# EAGLE library part 61306421121 (library Eagle_BOARD-TO-BOARD_CONNECTORS (rev18b))
WR-PHD Dual Pin Header, 64 Pins =>Code : Con_BTB_PHD_2.54_2_61306421121 <http://katalog.we-online.de/media/images/eican/Con_BTB_PHD_2.54_2_6130xx21121_pf2.jpg> Details see: http://katalog.we-online.de/en/em/613_0xx_211_21 Created 2014-05-29, Karrer Zheng 2014 (C) Würth Elektronik
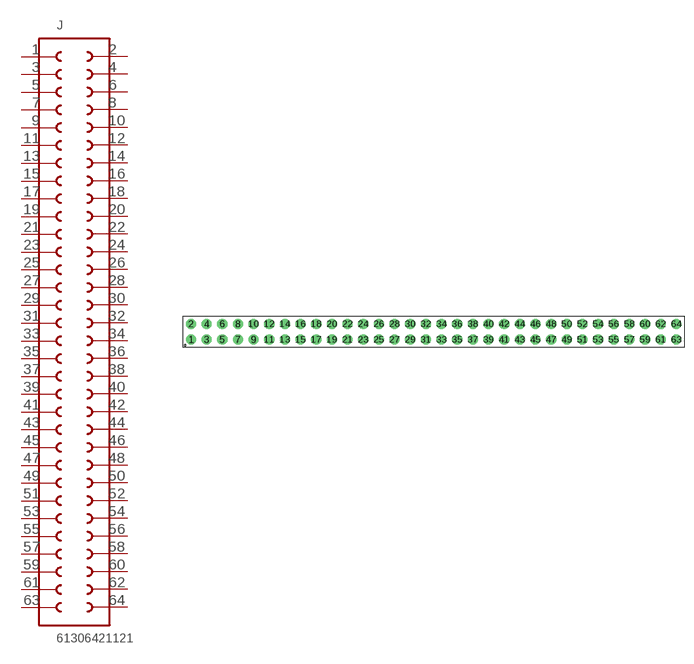
[diagram p36: symbol with the pads of 61306421121; footprint 61306421121]

Designator prefix J

## 61306421121  [61306421121]
1  1  pas
2  64  pas
3  2  pas
4  63  pas
5  3  pas
6  62  pas
7  4  pas
8  61  pas
9  5  pas
10  60  pas
11  6  pas
12  59  pas
13  7  pas
14  58  pas
15  8  pas
16  57  pas
17  9  pas
18  56  pas
19  10  pas
20  55  pas
21  11  pas
22  54  pas
23  12  pas
24  53  pas
25  13  pas
26  52  pas
27  14  pas
28  51  pas
29  15  pas
30  50  pas
31  16  pas
32  49  pas
33  17  pas
34  48  pas
35  18  pas
36  47  pas
37  19  pas
38  46  pas
39  20  pas
40  45  pas
41  21  pas
42  44  pas
43  22  pas
44  43  pas
45  23  pas
46  42  pas
47  24  pas
48  41  pas
49  25  pas
50  40  pas
51  26  pas
52  39  pas
53  27  pas
54  38  pas
55  28  pas
56  37  pas
57  29  pas
58  36  pas
59  30  pas
60  35  pas
61  31  pas
62  34  pas
63  32  pas
64  33  pas

## Footprint 61306421121 (pad centres in mm)
WR-PHD 2.54mm Dual Pin Header, 64 Pins
drill 1.1: 1 -39.37,-1.27; 2 -39.37,1.27; 3 -36.83,-1.27; 4 -36.83,1.27; 5 -34.29,-1.27; 6 -34.29,1.27; 7 -31.75,-1.27; 8 -31.75,1.27; 9 -29.21,-1.27; 10 -29.21,1.27; 11 -26.67,-1.27; 12 -26.67,1.27; 13 -24.13,-1.27; 14 -24.13,1.27; 15 -21.59,-1.27; 16 -21.59,1.27; 17 -19.05,-1.27; 18 -19.05,1.27; 19 -16.51,-1.27; 20 -16.51,1.27; 21 -13.97,-1.27; 22 -13.97,1.27; 23 -11.43,-1.27; 24 -11.43,1.27; 25 -8.89,-1.27; 26 -8.89,1.27; 27 -6.35,-1.27; 28 -6.35,1.27; 29 -3.81,-1.27; 30 -3.81,1.27; 31 -1.27,-1.27; 32 -1.27,1.27; 33 1.27,-1.27; 34 1.27,1.27; 35 3.81,-1.27; 36 3.81,1.27; 37 6.35,-1.27; 38 6.35,1.27; 39 8.89,-1.27; 40 8.89,1.27; 41 11.43,-1.27; 42 11.43,1.27; 43 13.97,-1.27; 44 13.97,1.27; 45 16.51,-1.27; 46 16.51,1.27; 47 19.05,-1.27; 48 19.05,1.27; 49 21.59,-1.27; 50 21.59,1.27; 51 24.13,-1.27; 52 24.13,1.27; 53 26.67,-1.27; 54 26.67,1.27; 55 29.21,-1.27; 56 29.21,1.27; 57 31.75,-1.27; 58 31.75,1.27; 59 34.29,-1.27; 60 34.29,1.27; 61 36.83,-1.27; 62 36.83,1.27; 63 39.37,-1.27; 64 39.37,1.27